# EAGLE library part DF3-07S (library con-hirose)
Single row female connector 2mm 7 way
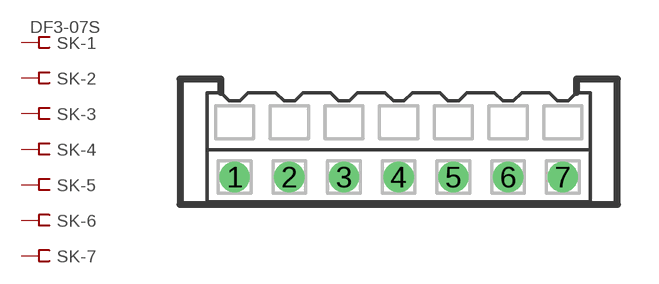
[diagram p2: symbol with the pads of DF3S-07; footprint DF3S-07]

Designator prefix SK; gates -1=FV -2=F -3=F -4=F -5=F -6=F -7=F

## DF3-07S  [DF3S-07]
1  -1:S  pas
2  -2:S  pas
3  -3:S  pas
4  -4:S  pas
5  -5:S  pas
6  -6:S  pas
7  -7:S  pas

## Footprint DF3S-07 (pad centres in mm)
Single row connector 2mm 7 way
drill 0.6 round: 1 -6,-1; 2 -4,-1; 3 -2,-1; 4 0,-1; 5 2,-1; 6 4,-1; 7 6,-1